# Altium integrated library Linear Technology Operational Amplifiers (LT2000-LT6000).IntLib: 1710 symbols (part 16 of 75)
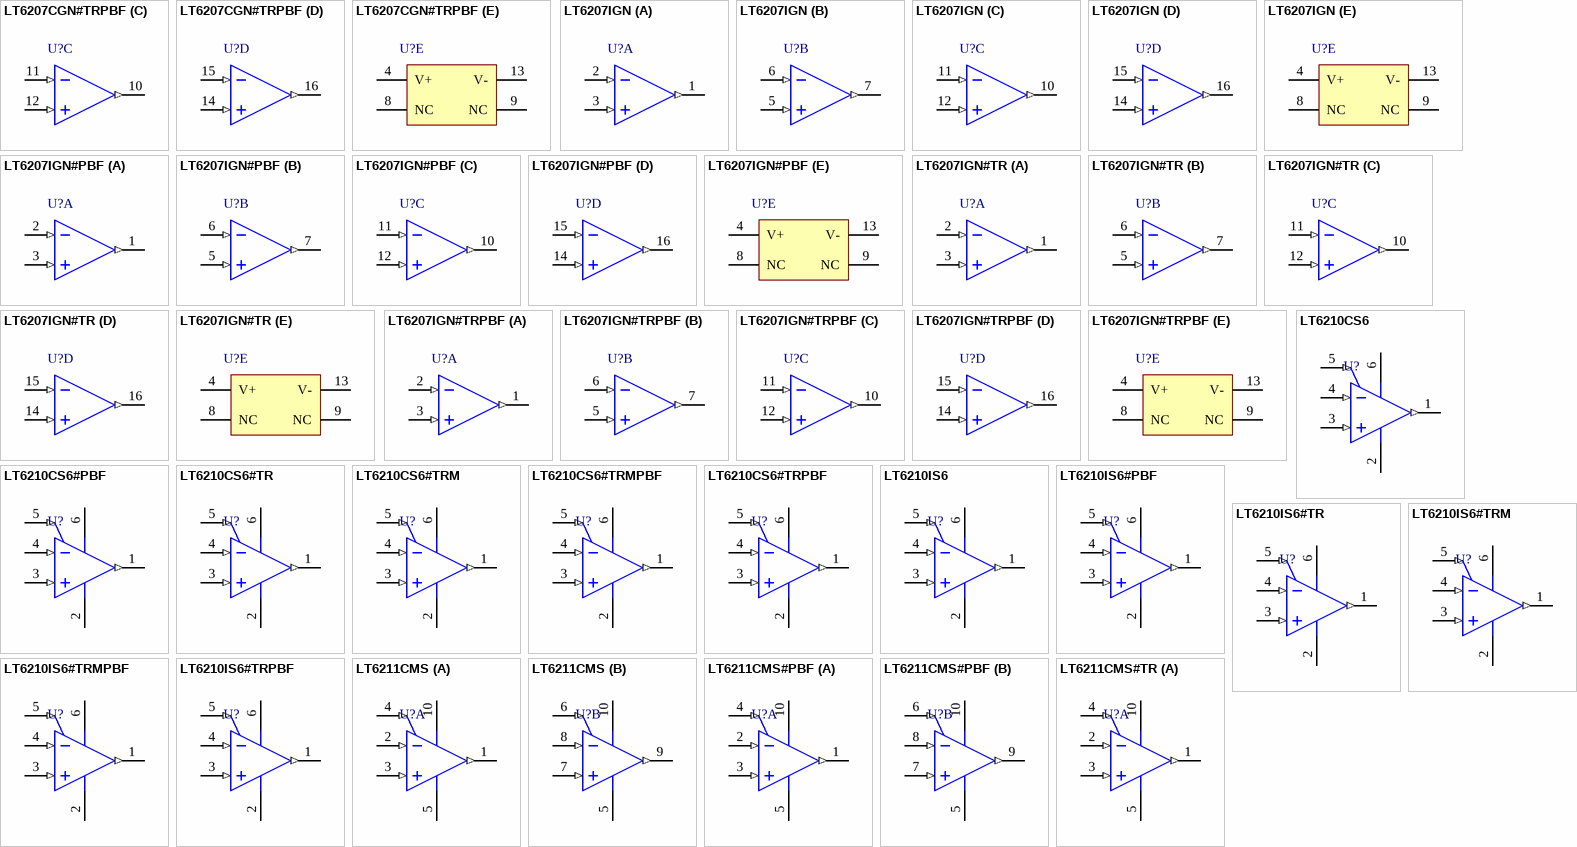
[diagram p95: symbols LT6207CGN#TRPBF to LT6211CMS#TR]

## LT6210IS6#TRPBF
designator U?
Single Channel, Adjustable Speed and Power Current Feedback Amplifier, 200 MHz Typical GBW, 700 V/us Typical SR, 3 to 13.2 V, 6-Pin SOT23 (S6-6), Industrial, Pb-Free, Reel; Linear Technology Part Number: LT6210; Manufacturer: Linear Technology; PartNumber: LT6210IS6#TRPBF; Channels (#): 1; GBW (MHz) Typical: 200; Is (mA) Typical: 5.8; SR (V/us) Typical: 700; Vos (mV) Guaranteed: 6; Vs Max (V): 13.2; Vs Min (V): 3; DatasheetVersion: Rev. C; PackageReference: LT-S6-6-TSOT-23; PackageDescription: 6-Pin Plastic TSOT-23, Body 2.9 x 1.63 mm, Pitch 0.95 mm; Supplier 1: Digi-Key; Supplier Part Number 1: LT6210IS6#TRPBF-ND; Packing: Reel; RoHS: Pb-Free; Type: CFA; Vos (mV) Typical: 1; Mounting Technology: Surface Mount; Code_JEDEC: MO-193; ComponentLink1Description: Manufacturer URL; ComponentLink1URL: http://www.linear.com/; ComponentLink2Description: Datasheet; ComponentLink2URL: http://cds.linear.com/docs/en/datasheet/62101fc.pdf; ComponentLink3Description: Package Specification; ComponentLink3URL: http://cds.linear.com/docs/en/packaging/SOT_6_05-08-1636.pdf
footprint LT-S6-6-TSOT-23_N (SOT23, 6-Leads, Body 2.90x1.63mm, Pitch 0.95mm, IPC Medium Density)
footprint LT-S6-6-TSOT-23_L (SOT23, 6-Leads, Body 2.90x1.63mm, Pitch 0.95mm, IPC High Density)
footprint LT-S6-6-TSOT-23_M (SOT23, 6-Leads, Body 2.90x1.63mm, Pitch 0.95mm, IPC Low Density)
pins: 1 OUT (out), 2 V- (power), 3 +IN (in), 4 -IN (in), 5 ISET (in), 6 V+ (power)

## LT6211CMS
designator U?
Dual Channel, Adjustable Speed and Power Current Feedback Amplifier, 200 MHz Typical GBW, 700 V/us Typical SR, 3 to 13.2 V, 10-Pin SOP (MS-10), Commercial; Linear Technology Part Number: LT6211; Manufacturer: Linear Technology; PartNumber: LT6211CMS; Channels (#): 2; GBW (MHz) Typical: 200; Is (mA) Typical: 5.8; SR (V/us) Typical: 700; Vos (mV) Guaranteed: 6; Vos (mV) Typical: 1; Vs Max (V): 13.2; Vs Min (V): 3; DatasheetVersion: Rev. C; PackageVersion: Rev E; PackageReference: LT-MS-10; PackageDescription: 10-Lead Plastic MSOP, Body 3 x 3 mm, Pitch 0.5 mm; Supplier 1: Digi-Key; Supplier Part Number 1: LT6211CMS-ND; Type: CFA; Mounting Technology: Surface Mount; ComponentLink1Description: Manufacturer URL; ComponentLink1URL: http://www.linear.com/; ComponentLink2Description: Datasheet; ComponentLink2URL: http://cds.linear.com/docs/en/datasheet/62101fc.pdf; ComponentLink3Description: Package Specification; ComponentLink3URL: http://cds.linear.com/docs/en/packaging/MSOP_10_05-08-1661.pdf
footprint LT-MS-10_N (SOP, 10-Leads, Body 3x3mm, Pitch 0.50mm, IPC Medium Density)
footprint LT-MS-10_L (SOP, 10-Leads, Body 3x3mm, Pitch 0.50mm, IPC High Density)
footprint LT-MS-10_M (SOP, 10-Leads, Body 3x3mm, Pitch 0.50mm, IPC Low Density)
pins on every part: 5 V- (power), 10 V+ (power)
part A pins: 1 OUT A (out), 2 -IN A (in), 3 +IN A (in), 4 ISET A (in)
part B pins: 6 ISET B (in), 7 +IN B (in), 8 -IN B (in), 9 OUT B (out)

## LT6211CMS#PBF
designator U?
Dual Channel, Adjustable Speed and Power Current Feedback Amplifier, 200 MHz Typical GBW, 700 V/us Typical SR, 3 to 13.2 V, 10-Pin SOP (MS-10), Commercial, Pb-Free; Linear Technology Part Number: LT6211; Manufacturer: Linear Technology; PartNumber: LT6211CMS#PBF; Channels (#): 2; GBW (MHz) Typical: 200; Is (mA) Typical: 5.8; SR (V/us) Typical: 700; Vos (mV) Guaranteed: 6; Vos (mV) Typical: 1; Vs Max (V): 13.2; Vs Min (V): 3; DatasheetVersion: Rev. C; PackageVersion: Rev E; PackageReference: LT-MS-10; PackageDescription: 10-Lead Plastic MSOP, Body 3 x 3 mm, Pitch 0.5 mm; Supplier 1: Digi-Key; Supplier Part Number 1: LT6211CMS#PBF-ND; Supplier 2: Farnell; Supplier Part Number 2: 1330760; Supplier 3: Newark; Supplier Part Number 3: 57M9293; RoHS: Pb-Free; Type: CFA; Mounting Technology: Surface Mount; ComponentLink1Description: Manufacturer URL; ComponentLink1URL: http://www.linear.com/; ComponentLink2Description: Datasheet; ComponentLink2URL: http://cds.linear.com/docs/en/datasheet/62101fc.pdf; ComponentLink3Description: Package Specification; ComponentLink3URL: http://cds.linear.com/docs/en/packaging/MSOP_10_05-08-1661.pdf
footprint LT-MS-10_N (SOP, 10-Leads, Body 3x3mm, Pitch 0.50mm, IPC Medium Density)
footprint LT-MS-10_L (SOP, 10-Leads, Body 3x3mm, Pitch 0.50mm, IPC High Density)
footprint LT-MS-10_M (SOP, 10-Leads, Body 3x3mm, Pitch 0.50mm, IPC Low Density)
pins on every part: 5 V- (power), 10 V+ (power)
part A pins: 1 OUT A (out), 2 -IN A (in), 3 +IN A (in), 4 ISET A (in)
part B pins: 6 ISET B (in), 7 +IN B (in), 8 -IN B (in), 9 OUT B (out)

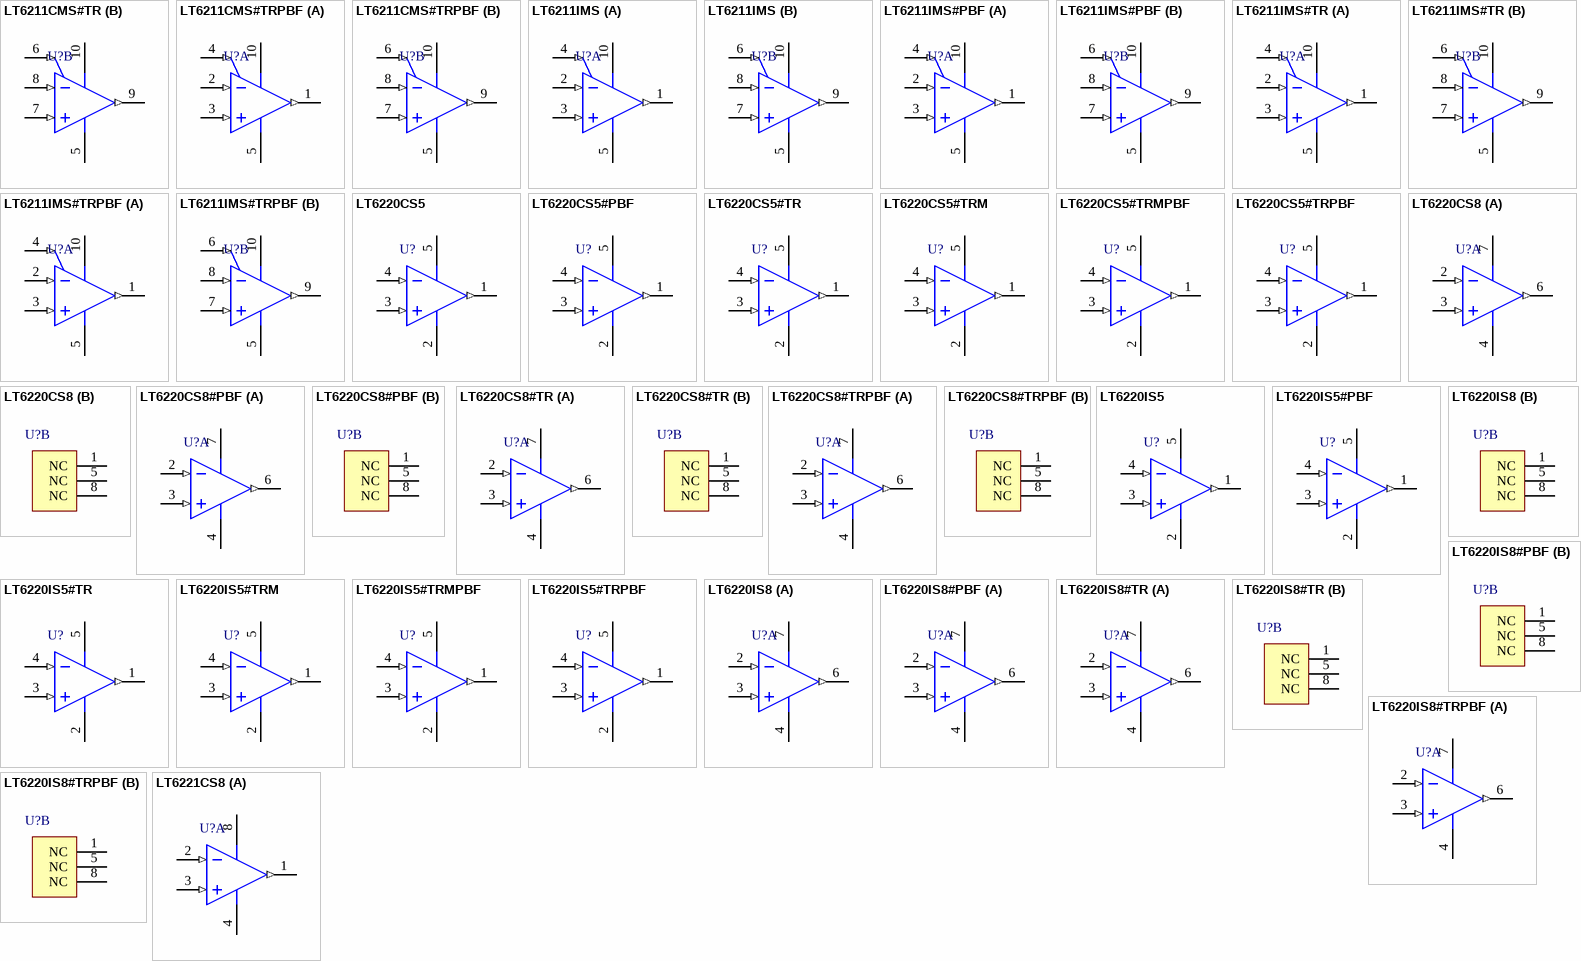
[diagram p24: symbols LT6211CMS#TR to LT6221CS8]

## LT6211CMS#TR
designator U?
Dual Channel, Adjustable Speed and Power Current Feedback Amplifier, 200 MHz Typical GBW, 700 V/us Typical SR, 3 to 13.2 V, 10-Pin SOP (MS-10), Commercial, Reel; Linear Technology Part Number: LT6211; Manufacturer: Linear Technology; PartNumber: LT6211CMS#TR; Channels (#): 2; GBW (MHz) Typical: 200; Is (mA) Typical: 5.8; SR (V/us) Typical: 700; Vos (mV) Guaranteed: 6; Vos (mV) Typical: 1; Vs Max (V): 13.2; Vs Min (V): 3; DatasheetVersion: Rev. C; PackageVersion: Rev E; PackageReference: LT-MS-10; PackageDescription: 10-Lead Plastic MSOP, Body 3 x 3 mm, Pitch 0.5 mm; Supplier 1: Digi-Key; Supplier Part Number 1: LT6211CMS#TR-ND; Packing: Reel; Type: CFA; Mounting Technology: Surface Mount; ComponentLink1Description: Manufacturer URL; ComponentLink1URL: http://www.linear.com/; ComponentLink2Description: Datasheet; ComponentLink2URL: http://cds.linear.com/docs/en/datasheet/62101fc.pdf; ComponentLink3Description: Package Specification; ComponentLink3URL: http://cds.linear.com/docs/en/packaging/MSOP_10_05-08-1661.pdf
footprint LT-MS-10_N (SOP, 10-Leads, Body 3x3mm, Pitch 0.50mm, IPC Medium Density)
footprint LT-MS-10_L (SOP, 10-Leads, Body 3x3mm, Pitch 0.50mm, IPC High Density)
footprint LT-MS-10_M (SOP, 10-Leads, Body 3x3mm, Pitch 0.50mm, IPC Low Density)
pins on every part: 5 V- (power), 10 V+ (power)
part A pins: 1 OUT A (out), 2 -IN A (in), 3 +IN A (in), 4 ISET A (in)
part B pins: 6 ISET B (in), 7 +IN B (in), 8 -IN B (in), 9 OUT B (out)

## LT6211CMS#TRPBF
designator U?
Dual Channel, Adjustable Speed and Power Current Feedback Amplifier, 200 MHz Typical GBW, 700 V/us Typical SR, 3 to 13.2 V, 10-Pin SOP (MS-10), Commercial, Pb-Free, Reel; Linear Technology Part Number: LT6211; Manufacturer: Linear Technology; PartNumber: LT6211CMS#TRPBF; Channels (#): 2; GBW (MHz) Typical: 200; Is (mA) Typical: 5.8; SR (V/us) Typical: 700; Vos (mV) Guaranteed: 6; Vos (mV) Typical: 1; Vs Max (V): 13.2; Vs Min (V): 3; DatasheetVersion: Rev. C; PackageVersion: Rev E; PackageReference: LT-MS-10; PackageDescription: 10-Lead Plastic MSOP, Body 3 x 3 mm, Pitch 0.5 mm; Supplier 1: Digi-Key; Supplier Part Number 1: LT6211CMS#TRPBF-ND; Packing: Reel; RoHS: Pb-Free; Type: CFA; Mounting Technology: Surface Mount; ComponentLink1Description: Manufacturer URL; ComponentLink1URL: http://www.linear.com/; ComponentLink2Description: Datasheet; ComponentLink2URL: http://cds.linear.com/docs/en/datasheet/62101fc.pdf; ComponentLink3Description: Package Specification; ComponentLink3URL: http://cds.linear.com/docs/en/packaging/MSOP_10_05-08-1661.pdf
footprint LT-MS-10_N (SOP, 10-Leads, Body 3x3mm, Pitch 0.50mm, IPC Medium Density)
footprint LT-MS-10_L (SOP, 10-Leads, Body 3x3mm, Pitch 0.50mm, IPC High Density)
footprint LT-MS-10_M (SOP, 10-Leads, Body 3x3mm, Pitch 0.50mm, IPC Low Density)
pins on every part: 5 V- (power), 10 V+ (power)
part A pins: 1 OUT A (out), 2 -IN A (in), 3 +IN A (in), 4 ISET A (in)
part B pins: 6 ISET B (in), 7 +IN B (in), 8 -IN B (in), 9 OUT B (out)

## LT6211IMS
designator U?
Dual Channel, Adjustable Speed and Power Current Feedback Amplifier, 200 MHz Typical GBW, 700 V/us Typical SR, 3 to 13.2 V, 10-Pin SOP (MS-10), Industrial; Linear Technology Part Number: LT6211; Manufacturer: Linear Technology; PartNumber: LT6211IMS; Channels (#): 2; GBW (MHz) Typical: 200; Is (mA) Typical: 5.8; SR (V/us) Typical: 700; Vos (mV) Guaranteed: 6; Vos (mV) Typical: 1; Vs Max (V): 13.2; Vs Min (V): 3; DatasheetVersion: Rev. C; PackageVersion: Rev E; PackageReference: LT-MS-10; PackageDescription: 10-Lead Plastic MSOP, Body 3 x 3 mm, Pitch 0.5 mm; Supplier 1: Digi-Key; Supplier Part Number 1: LT6211IMS-ND; Type: CFA; Mounting Technology: Surface Mount; ComponentLink1Description: Manufacturer URL; ComponentLink1URL: http://www.linear.com/; ComponentLink2Description: Datasheet; ComponentLink2URL: http://cds.linear.com/docs/en/datasheet/62101fc.pdf; ComponentLink3Description: Package Specification; ComponentLink3URL: http://cds.linear.com/docs/en/packaging/MSOP_10_05-08-1661.pdf
footprint LT-MS-10_N (SOP, 10-Leads, Body 3x3mm, Pitch 0.50mm, IPC Medium Density)
footprint LT-MS-10_L (SOP, 10-Leads, Body 3x3mm, Pitch 0.50mm, IPC High Density)
footprint LT-MS-10_M (SOP, 10-Leads, Body 3x3mm, Pitch 0.50mm, IPC Low Density)
pins on every part: 5 V- (power), 10 V+ (power)
part A pins: 1 OUT A (out), 2 -IN A (in), 3 +IN A (in), 4 ISET A (in)
part B pins: 6 ISET B (in), 7 +IN B (in), 8 -IN B (in), 9 OUT B (out)

## LT6211IMS#PBF
designator U?
Dual Channel, Adjustable Speed and Power Current Feedback Amplifier, 200 MHz Typical GBW, 700 V/us Typical SR, 3 to 13.2 V, 10-Pin SOP (MS-10), Industrial, Pb-Free; Linear Technology Part Number: LT6211; Manufacturer: Linear Technology; PartNumber: LT6211IMS#PBF; Channels (#): 2; GBW (MHz) Typical: 200; Is (mA) Typical: 5.8; SR (V/us) Typical: 700; Vos (mV) Guaranteed: 6; Vos (mV) Typical: 1; Vs Max (V): 13.2; Vs Min (V): 3; DatasheetVersion: Rev. C; PackageVersion: Rev E; PackageReference: LT-MS-10; PackageDescription: 10-Lead Plastic MSOP, Body 3 x 3 mm, Pitch 0.5 mm; Supplier 1: Digi-Key; Supplier Part Number 1: LT6211IMS#PBF-ND; RoHS: Pb-Free; Type: CFA; Mounting Technology: Surface Mount; ComponentLink1Description: Manufacturer URL; ComponentLink1URL: http://www.linear.com/; ComponentLink2Description: Datasheet; ComponentLink2URL: http://cds.linear.com/docs/en/datasheet/62101fc.pdf; ComponentLink3Description: Package Specification; ComponentLink3URL: http://cds.linear.com/docs/en/packaging/MSOP_10_05-08-1661.pdf
footprint LT-MS-10_N (SOP, 10-Leads, Body 3x3mm, Pitch 0.50mm, IPC Medium Density)
footprint LT-MS-10_L (SOP, 10-Leads, Body 3x3mm, Pitch 0.50mm, IPC High Density)
footprint LT-MS-10_M (SOP, 10-Leads, Body 3x3mm, Pitch 0.50mm, IPC Low Density)
pins on every part: 5 V- (power), 10 V+ (power)
part A pins: 1 OUT A (out), 2 -IN A (in), 3 +IN A (in), 4 ISET A (in)
part B pins: 6 ISET B (in), 7 +IN B (in), 8 -IN B (in), 9 OUT B (out)

## LT6211IMS#TR
designator U?
Dual Channel, Adjustable Speed and Power Current Feedback Amplifier, 200 MHz Typical GBW, 700 V/us Typical SR, 3 to 13.2 V, 10-Pin SOP (MS-10), Industrial, Reel; Linear Technology Part Number: LT6211; Manufacturer: Linear Technology; PartNumber: LT6211IMS#TR; Channels (#): 2; GBW (MHz) Typical: 200; Is (mA) Typical: 5.8; SR (V/us) Typical: 700; Vos (mV) Guaranteed: 6; Vos (mV) Typical: 1; Vs Max (V): 13.2; Vs Min (V): 3; DatasheetVersion: Rev. C; PackageVersion: Rev E; PackageReference: LT-MS-10; PackageDescription: 10-Lead Plastic MSOP, Body 3 x 3 mm, Pitch 0.5 mm; Supplier 1: Digi-Key; Supplier Part Number 1: LT6211IMS#TR-ND; Packing: Reel; Type: CFA; Mounting Technology: Surface Mount; ComponentLink1Description: Manufacturer URL; ComponentLink1URL: http://www.linear.com/; ComponentLink2Description: Datasheet; ComponentLink2URL: http://cds.linear.com/docs/en/datasheet/62101fc.pdf; ComponentLink3Description: Package Specification; ComponentLink3URL: http://cds.linear.com/docs/en/packaging/MSOP_10_05-08-1661.pdf
footprint LT-MS-10_N (SOP, 10-Leads, Body 3x3mm, Pitch 0.50mm, IPC Medium Density)
footprint LT-MS-10_L (SOP, 10-Leads, Body 3x3mm, Pitch 0.50mm, IPC High Density)
footprint LT-MS-10_M (SOP, 10-Leads, Body 3x3mm, Pitch 0.50mm, IPC Low Density)
pins on every part: 5 V- (power), 10 V+ (power)
part A pins: 1 OUT A (out), 2 -IN A (in), 3 +IN A (in), 4 ISET A (in)
part B pins: 6 ISET B (in), 7 +IN B (in), 8 -IN B (in), 9 OUT B (out)

## LT6211IMS#TRPBF
designator U?
Dual Channel, Adjustable Speed and Power Current Feedback Amplifier, 200 MHz Typical GBW, 700 V/us Typical SR, 3 to 13.2 V, 10-Pin SOP (MS-10), Industrial, Pb-Free, Reel; Linear Technology Part Number: LT6211; Manufacturer: Linear Technology; PartNumber: LT6211IMS#TRPBF; Channels (#): 2; GBW (MHz) Typical: 200; Is (mA) Typical: 5.8; SR (V/us) Typical: 700; Vos (mV) Guaranteed: 6; Vos (mV) Typical: 1; Vs Max (V): 13.2; Vs Min (V): 3; DatasheetVersion: Rev. C; PackageVersion: Rev E; PackageReference: LT-MS-10; PackageDescription: 10-Lead Plastic MSOP, Body 3 x 3 mm, Pitch 0.5 mm; Supplier 1: Digi-Key; Supplier Part Number 1: LT6211IMS#TRPBF-ND; Packing: Reel; RoHS: Pb-Free; Type: CFA; Mounting Technology: Surface Mount; ComponentLink1Description: Manufacturer URL; ComponentLink1URL: http://www.linear.com/; ComponentLink2Description: Datasheet; ComponentLink2URL: http://cds.linear.com/docs/en/datasheet/62101fc.pdf; ComponentLink3Description: Package Specification; ComponentLink3URL: http://cds.linear.com/docs/en/packaging/MSOP_10_05-08-1661.pdf
footprint LT-MS-10_N (SOP, 10-Leads, Body 3x3mm, Pitch 0.50mm, IPC Medium Density)
footprint LT-MS-10_L (SOP, 10-Leads, Body 3x3mm, Pitch 0.50mm, IPC High Density)
footprint LT-MS-10_M (SOP, 10-Leads, Body 3x3mm, Pitch 0.50mm, IPC Low Density)
pins on every part: 5 V- (power), 10 V+ (power)
part A pins: 1 OUT A (out), 2 -IN A (in), 3 +IN A (in), 4 ISET A (in)
part B pins: 6 ISET B (in), 7 +IN B (in), 8 -IN B (in), 9 OUT B (out)

## LT6220CS5
designator U?
Single Channel, Low Power Precision Operational Amplifier, RRIO, 60 MHz Typical GBW, 20 V/us Typical SR, 2.2 to 12.6 V, 5-Pin SOT23 (S5-5), Commercial; Linear Technology Part Number: LT6220; Manufacturer: Linear Technology; PartNumber: LT6220CS5; Channels (#): 1; GBW (MHz) Typical: 60; Is (mA) Typical: 0.9; SR (V/us) Typical: 20; Vos (mV) Guaranteed: 0.35; Vos (mV) Typical: 0.07; Vs Max (V): 12.6; Vs Min (V): 2.2; PackageReference: LT-S5-5-TSOT-23; PackageDescription: 5-Lead Plastic TSOT-23, Body 1.63 x 2.90 mm, Pitch 0.95 mm; Type: VFB; Mounting Technology: Surface Mount; Code_JEDEC: MO-193; ComponentLink1Description: Manufacturer URL; ComponentLink1URL: http://www.linear.com/; ComponentLink2Description: Datasheet; ComponentLink2URL: http://cds.linear.com/docs/en/datasheet/622012fa.pdf; ComponentLink3Description: Package Specification; ComponentLink3URL: http://cds.linear.com/docs/en/packaging/SOT_5_05-08-1635.pdf
footprint LT-S5-5-TSOT-23_N (SOT23, 5-Leads, Body 2.90x1.63mm, Pitch 0.95mm, IPC Medium Density)
footprint LT-S5-5-TSOT-23_L (SOT23, 5-Leads, Body 2.90x1.63mm, Pitch 0.95mm, IPC High Density)
footprint LT-S5-5-TSOT-23_M (SOT23, 5-Leads, Body 2.90x1.63mm, Pitch 0.95mm, IPC Low Density)
pins: 1 VOUT (out), 2 VS- (power), 3 +IN (in), 4 -IN (in), 5 VS+ (power)

## LT6220CS5#PBF
designator U?
Single Channel, Low Power Precision Operational Amplifier, RRIO, 60 MHz Typical GBW, 20 V/us Typical SR, 2.2 to 12.6 V, 5-Pin SOT23 (S5-5), Commercial, Pb-Free; Linear Technology Part Number: LT6220; Manufacturer: Linear Technology; PartNumber: LT6220CS5#PBF; Channels (#): 1; GBW (MHz) Typical: 60; Is (mA) Typical: 0.9; SR (V/us) Typical: 20; Vos (mV) Guaranteed: 0.35; Vos (mV) Typical: 0.07; Vs Max (V): 12.6; Vs Min (V): 2.2; PackageReference: LT-S5-5-TSOT-23; PackageDescription: 5-Lead Plastic TSOT-23, Body 1.63 x 2.90 mm, Pitch 0.95 mm; Supplier 1: Farnell; Supplier Part Number 1: 2308222; Supplier 2: Newark; Supplier Part Number 2: 78T4176; RoHS: Pb-Free; Type: VFB; Mounting Technology: Surface Mount; Code_JEDEC: MO-193; ComponentLink1Description: Manufacturer URL; ComponentLink1URL: http://www.linear.com/; ComponentLink2Description: Datasheet; ComponentLink2URL: http://cds.linear.com/docs/en/datasheet/622012fa.pdf; ComponentLink3Description: Package Specification; ComponentLink3URL: http://cds.linear.com/docs/en/packaging/SOT_5_05-08-1635.pdf
footprint LT-S5-5-TSOT-23_N (SOT23, 5-Leads, Body 2.90x1.63mm, Pitch 0.95mm, IPC Medium Density)
footprint LT-S5-5-TSOT-23_L (SOT23, 5-Leads, Body 2.90x1.63mm, Pitch 0.95mm, IPC High Density)
footprint LT-S5-5-TSOT-23_M (SOT23, 5-Leads, Body 2.90x1.63mm, Pitch 0.95mm, IPC Low Density)
pins: 1 VOUT (out), 2 VS- (power), 3 +IN (in), 4 -IN (in), 5 VS+ (power)

## LT6220CS5#TR
designator U?
Single Channel, Low Power Precision Operational Amplifier, RRIO, 60 MHz Typical GBW, 20 V/us Typical SR, 2.2 to 12.6 V, 5-Pin SOT23 (S5-5), Commercial, Reel; Linear Technology Part Number: LT6220; Manufacturer: Linear Technology; PartNumber: LT6220CS5#TR; Channels (#): 1; GBW (MHz) Typical: 60; Is (mA) Typical: 0.9; SR (V/us) Typical: 20; Vos (mV) Guaranteed: 0.35; Vos (mV) Typical: 0.07; Vs Max (V): 12.6; Vs Min (V): 2.2; PackageReference: LT-S5-5-TSOT-23; PackageDescription: 5-Lead Plastic TSOT-23, Body 1.63 x 2.90 mm, Pitch 0.95 mm; Supplier 1: Digi-Key; Supplier Part Number 1: LT6220CS5#TR-ND; Supplier 2: Newark; Supplier Part Number 2: 57M9304; Packing: Reel; Type: VFB; Mounting Technology: Surface Mount; Code_JEDEC: MO-193; ComponentLink1Description: Manufacturer URL; ComponentLink1URL: http://www.linear.com/; ComponentLink2Description: Datasheet; ComponentLink2URL: http://cds.linear.com/docs/en/datasheet/622012fa.pdf; ComponentLink3Description: Package Specification; ComponentLink3URL: http://cds.linear.com/docs/en/packaging/SOT_5_05-08-1635.pdf
footprint LT-S5-5-TSOT-23_N (SOT23, 5-Leads, Body 2.90x1.63mm, Pitch 0.95mm, IPC Medium Density)
footprint LT-S5-5-TSOT-23_L (SOT23, 5-Leads, Body 2.90x1.63mm, Pitch 0.95mm, IPC High Density)
footprint LT-S5-5-TSOT-23_M (SOT23, 5-Leads, Body 2.90x1.63mm, Pitch 0.95mm, IPC Low Density)
pins: 1 VOUT (out), 2 VS- (power), 3 +IN (in), 4 -IN (in), 5 VS+ (power)

## LT6220CS5#TRM
designator U?
Single Channel, Low Power Precision Operational Amplifier, RRIO, 60 MHz Typical GBW, 20 V/us Typical SR, 2.2 to 12.6 V, 5-Pin SOT23 (S5-5), Commercial, Mini Reel; Linear Technology Part Number: LT6220; Manufacturer: Linear Technology; PartNumber: LT6220CS5#TRM; Channels (#): 1; GBW (MHz) Typical: 60; Is (mA) Typical: 0.9; SR (V/us) Typical: 20; Vos (mV) Guaranteed: 0.35; Vos (mV) Typical: 0.07; Vs Max (V): 12.6; Vs Min (V): 2.2; PackageReference: LT-S5-5-TSOT-23; PackageDescription: 5-Lead Plastic TSOT-23, Body 1.63 x 2.90 mm, Pitch 0.95 mm; Supplier 1: Digi-Key; Supplier Part Number 1: LT6220CS5#TRMTR-ND; Supplier 2: Digi-Key; Supplier Part Number 2: LT6220CS5#TRMCT-ND; Packing: Mini Reel; Type: VFB; Mounting Technology: Surface Mount; Code_JEDEC: MO-193; ComponentLink1Description: Manufacturer URL; ComponentLink1URL: http://www.linear.com/; ComponentLink2Description: Datasheet; ComponentLink2URL: http://cds.linear.com/docs/en/datasheet/622012fa.pdf; ComponentLink3Description: Package Specification; ComponentLink3URL: http://cds.linear.com/docs/en/packaging/SOT_5_05-08-1635.pdf
footprint LT-S5-5-TSOT-23_N (SOT23, 5-Leads, Body 2.90x1.63mm, Pitch 0.95mm, IPC Medium Density)
footprint LT-S5-5-TSOT-23_L (SOT23, 5-Leads, Body 2.90x1.63mm, Pitch 0.95mm, IPC High Density)
footprint LT-S5-5-TSOT-23_M (SOT23, 5-Leads, Body 2.90x1.63mm, Pitch 0.95mm, IPC Low Density)
pins: 1 VOUT (out), 2 VS- (power), 3 +IN (in), 4 -IN (in), 5 VS+ (power)

## LT6220CS5#TRMPBF
designator U?
Single Channel, Low Power Precision Operational Amplifier, RRIO, 60 MHz Typical GBW, 20 V/us Typical SR, 2.2 to 12.6 V, 5-Pin SOT23 (S5-5), Commercial, Pb-Free, Mini Reel; Linear Technology Part Number: LT6220; Manufacturer: Linear Technology; PartNumber: LT6220CS5#TRMPBF; Channels (#): 1; GBW (MHz) Typical: 60; Is (mA) Typical: 0.9; SR (V/us) Typical: 20; Vos (mV) Guaranteed: 0.35; Vos (mV) Typical: 0.07; Vs Max (V): 12.6; Vs Min (V): 2.2; PackageReference: LT-S5-5-TSOT-23; PackageDescription: 5-Lead Plastic TSOT-23, Body 1.63 x 2.90 mm, Pitch 0.95 mm; Supplier 1: Digi-Key; Supplier Part Number 1: LT6220CS5#TRMPBFTR-ND; Supplier 2: Digi-Key; Supplier Part Number 2: LT6220CS5#TRMPBFCT-ND; Supplier 3: Digi-Key; Supplier Part Number 3: LT6220CS5#TRMPBFDKR-ND; Supplier 4: Farnell; Supplier Part Number 4: 1663844; Supplier 5: Farnell; Supplier Part Number 5: 1663844RL; Supplier 6: Newark; Supplier Part Number 6: 57M9306; Packing: Mini Reel; RoHS: Pb-Free; Type: VFB; Mounting Technology: Surface Mount; Code_JEDEC: MO-193; ComponentLink1Description: Manufacturer URL; ComponentLink1URL: http://www.linear.com/; ComponentLink2Description: Datasheet; ComponentLink2URL: http://cds.linear.com/docs/en/datasheet/622012fa.pdf; ComponentLink3Description: Package Specification; ComponentLink3URL: http://cds.linear.com/docs/en/packaging/SOT_5_05-08-1635.pdf
footprint LT-S5-5-TSOT-23_N (SOT23, 5-Leads, Body 2.90x1.63mm, Pitch 0.95mm, IPC Medium Density)
footprint LT-S5-5-TSOT-23_L (SOT23, 5-Leads, Body 2.90x1.63mm, Pitch 0.95mm, IPC High Density)
footprint LT-S5-5-TSOT-23_M (SOT23, 5-Leads, Body 2.90x1.63mm, Pitch 0.95mm, IPC Low Density)
pins: 1 VOUT (out), 2 VS- (power), 3 +IN (in), 4 -IN (in), 5 VS+ (power)

## LT6220CS5#TRPBF
designator U?
Single Channel, Low Power Precision Operational Amplifier, RRIO, 60 MHz Typical GBW, 20 V/us Typical SR, 2.2 to 12.6 V, 5-Pin SOT23 (S5-5), Commercial, Pb-Free, Reel; Linear Technology Part Number: LT6220; Manufacturer: Linear Technology; PartNumber: LT6220CS5#TRPBF; Channels (#): 1; GBW (MHz) Typical: 60; Is (mA) Typical: 0.9; SR (V/us) Typical: 20; Vos (mV) Guaranteed: 0.35; Vos (mV) Typical: 0.07; Vs Max (V): 12.6; Vs Min (V): 2.2; PackageReference: LT-S5-5-TSOT-23; PackageDescription: 5-Lead Plastic TSOT-23, Body 1.63 x 2.90 mm, Pitch 0.95 mm; Supplier 1: Digi-Key; Supplier Part Number 1: LT6220CS5#TRPBF-ND; Supplier 2: Newark; Supplier Part Number 2: 57M9307; Packing: Reel; RoHS: Pb-Free; Type: VFB; Mounting Technology: Surface Mount; Code_JEDEC: MO-193; ComponentLink1Description: Manufacturer URL; ComponentLink1URL: http://www.linear.com/; ComponentLink2Description: Datasheet; ComponentLink2URL: http://cds.linear.com/docs/en/datasheet/622012fa.pdf; ComponentLink3Description: Package Specification; ComponentLink3URL: http://cds.linear.com/docs/en/packaging/SOT_5_05-08-1635.pdf
footprint LT-S5-5-TSOT-23_N (SOT23, 5-Leads, Body 2.90x1.63mm, Pitch 0.95mm, IPC Medium Density)
footprint LT-S5-5-TSOT-23_L (SOT23, 5-Leads, Body 2.90x1.63mm, Pitch 0.95mm, IPC High Density)
footprint LT-S5-5-TSOT-23_M (SOT23, 5-Leads, Body 2.90x1.63mm, Pitch 0.95mm, IPC Low Density)
pins: 1 VOUT (out), 2 VS- (power), 3 +IN (in), 4 -IN (in), 5 VS+ (power)

## LT6220CS8
designator U?
Single Channel, Low Power Precision Operational Amplifier, RRIO, 60 MHz Typical GBW, 20 V/us Typical SR, 2.2 to 12.6 V, 8-Pin SOIC (S8-8), Commercial; Linear Technology Part Number: LT6220; Manufacturer: Linear Technology; PartNumber: LT6220CS8; Channels (#): 1; GBW (MHz) Typical: 60; Is (mA) Typical: 0.9; SR (V/us) Typical: 20; Vos (mV) Guaranteed: 0.35; Vos (mV) Typical: 0.07; Vs Max (V): 12.6; Vs Min (V): 2.2; PackageVersion: Rev G; PackageReference: LT-S8-8; PackageDescription: 8-Pin Plastic Small Outline, Body 4.9 x 3.9 mm, Pitch 1.27 mm; Supplier 1: Digi-Key; Supplier Part Number 1: LT6220CS8-ND; Type: VFB; Mounting Technology: Surface Mount; ComponentLink1Description: Manufacturer URL; ComponentLink1URL: http://www.linear.com/; ComponentLink2Description: Datasheet; ComponentLink2URL: http://cds.linear.com/docs/en/datasheet/622012fa.pdf; ComponentLink3Description: Package Specification; ComponentLink3URL: http://cds.linear.com/docs/en/packaging/05081610_G_SO8.pdf
footprint LT-S8-8_N (SOIC, 8-Leads, Body 4.9x3.9mm, Pitch 1.27mm, IPC Medium Density)
footprint LT-S8-8_L (SOIC, 8-Leads, Body 4.9x3.9mm, Pitch 1.27mm, IPC High Density)
footprint LT-S8-8_M (SOIC, 8-Leads, Body 4.9x3.9mm, Pitch 1.27mm, IPC Low Density)
part A pins: 2 -IN (in), 3 +IN (in), 4 VS- (power), 6 VOUT (out), 7 VS+ (power)
part B pins: 1 NC, 5 NC, 8 NC

## LT6220CS8#PBF
designator U?
Single Channel, Low Power Precision Operational Amplifier, RRIO, 60 MHz Typical GBW, 20 V/us Typical SR, 2.2 to 12.6 V, 8-Pin SOIC (S8-8), Commercial, Pb-Free; Linear Technology Part Number: LT6220; Manufacturer: Linear Technology; PartNumber: LT6220CS8#PBF; Channels (#): 1; GBW (MHz) Typical: 60; Is (mA) Typical: 0.9; SR (V/us) Typical: 20; Vos (mV) Guaranteed: 0.35; Vos (mV) Typical: 0.07; Vs Max (V): 12.6; Vs Min (V): 2.2; PackageVersion: Rev G; PackageReference: LT-S8-8; PackageDescription: 8-Pin Plastic Small Outline, Body 4.9 x 3.9 mm, Pitch 1.27 mm; Supplier 1: Digi-Key; Supplier Part Number 1: LT6220CS8#PBF-ND; Supplier 2: Farnell; Supplier Part Number 2: 1663588; Supplier 3: Newark; Supplier Part Number 3: 57M9309; RoHS: Pb-Free; Type: VFB; Mounting Technology: Surface Mount; ComponentLink1Description: Manufacturer URL; ComponentLink1URL: http://www.linear.com/; ComponentLink2Description: Datasheet; ComponentLink2URL: http://cds.linear.com/docs/en/datasheet/622012fa.pdf; ComponentLink3Description: Package Specification; ComponentLink3URL: http://cds.linear.com/docs/en/packaging/05081610_G_SO8.pdf
footprint LT-S8-8_N (SOIC, 8-Leads, Body 4.9x3.9mm, Pitch 1.27mm, IPC Medium Density)
footprint LT-S8-8_L (SOIC, 8-Leads, Body 4.9x3.9mm, Pitch 1.27mm, IPC High Density)
footprint LT-S8-8_M (SOIC, 8-Leads, Body 4.9x3.9mm, Pitch 1.27mm, IPC Low Density)
part A pins: 2 -IN (in), 3 +IN (in), 4 VS- (power), 6 VOUT (out), 7 VS+ (power)
part B pins: 1 NC, 5 NC, 8 NC

## LT6220CS8#TR
designator U?
Single Channel, Low Power Precision Operational Amplifier, RRIO, 60 MHz Typical GBW, 20 V/us Typical SR, 2.2 to 12.6 V, 8-Pin SOIC (S8-8), Commercial, Reel; Linear Technology Part Number: LT6220; Manufacturer: Linear Technology; PartNumber: LT6220CS8#TR; Channels (#): 1; GBW (MHz) Typical: 60; Is (mA) Typical: 0.9; SR (V/us) Typical: 20; Vos (mV) Guaranteed: 0.35; Vos (mV) Typical: 0.07; Vs Max (V): 12.6; Vs Min (V): 2.2; PackageVersion: Rev G; PackageReference: LT-S8-8; PackageDescription: 8-Pin Plastic Small Outline, Body 4.9 x 3.9 mm, Pitch 1.27 mm; Supplier 1: Digi-Key; Supplier Part Number 1: LT6220CS8#TR-ND; Packing: Reel; Type: VFB; Mounting Technology: Surface Mount; ComponentLink1Description: Manufacturer URL; ComponentLink1URL: http://www.linear.com/; ComponentLink2Description: Datasheet; ComponentLink2URL: http://cds.linear.com/docs/en/datasheet/622012fa.pdf; ComponentLink3Description: Package Specification; ComponentLink3URL: http://cds.linear.com/docs/en/packaging/05081610_G_SO8.pdf
footprint LT-S8-8_N (SOIC, 8-Leads, Body 4.9x3.9mm, Pitch 1.27mm, IPC Medium Density)
footprint LT-S8-8_L (SOIC, 8-Leads, Body 4.9x3.9mm, Pitch 1.27mm, IPC High Density)
footprint LT-S8-8_M (SOIC, 8-Leads, Body 4.9x3.9mm, Pitch 1.27mm, IPC Low Density)
part A pins: 2 -IN (in), 3 +IN (in), 4 VS- (power), 6 VOUT (out), 7 VS+ (power)
part B pins: 1 NC, 5 NC, 8 NC

## LT6220CS8#TRPBF
designator U?
Single Channel, Low Power Precision Operational Amplifier, RRIO, 60 MHz Typical GBW, 20 V/us Typical SR, 2.2 to 12.6 V, 8-Pin SOIC (S8-8), Commercial, Pb-Free, Reel; Linear Technology Part Number: LT6220; Manufacturer: Linear Technology; PartNumber: LT6220CS8#TRPBF; Channels (#): 1; GBW (MHz) Typical: 60; Is (mA) Typical: 0.9; SR (V/us) Typical: 20; Vos (mV) Guaranteed: 0.35; Vos (mV) Typical: 0.07; Vs Max (V): 12.6; Vs Min (V): 2.2; PackageVersion: Rev G; PackageReference: LT-S8-8; PackageDescription: 8-Pin Plastic Small Outline, Body 4.9 x 3.9 mm, Pitch 1.27 mm; Supplier 1: Digi-Key; Supplier Part Number 1: LT6220CS8#TRPBF-ND; Packing: Reel; RoHS: Pb-Free; Type: VFB; Mounting Technology: Surface Mount; ComponentLink1Description: Manufacturer URL; ComponentLink1URL: http://www.linear.com/; ComponentLink2Description: Datasheet; ComponentLink2URL: http://cds.linear.com/docs/en/datasheet/622012fa.pdf; ComponentLink3Description: Package Specification; ComponentLink3URL: http://cds.linear.com/docs/en/packaging/05081610_G_SO8.pdf
footprint LT-S8-8_N (SOIC, 8-Leads, Body 4.9x3.9mm, Pitch 1.27mm, IPC Medium Density)
footprint LT-S8-8_L (SOIC, 8-Leads, Body 4.9x3.9mm, Pitch 1.27mm, IPC High Density)
footprint LT-S8-8_M (SOIC, 8-Leads, Body 4.9x3.9mm, Pitch 1.27mm, IPC Low Density)
part A pins: 2 -IN (in), 3 +IN (in), 4 VS- (power), 6 VOUT (out), 7 VS+ (power)
part B pins: 1 NC, 5 NC, 8 NC

## LT6220IS5
designator U?
Single Channel, Low Power Precision Operational Amplifier, RRIO, 60 MHz Typical GBW, 20 V/us Typical SR, 2.2 to 12.6 V, 5-Pin SOT23 (S5-5), Industrial; Linear Technology Part Number: LT6220; Manufacturer: Linear Technology; PartNumber: LT6220IS5; Channels (#): 1; GBW (MHz) Typical: 60; Is (mA) Typical: 0.9; SR (V/us) Typical: 20; Vos (mV) Guaranteed: 0.35; Vos (mV) Typical: 0.07; Vs Max (V): 12.6; Vs Min (V): 2.2; PackageReference: LT-S5-5-TSOT-23; PackageDescription: 5-Lead Plastic TSOT-23, Body 1.63 x 2.90 mm, Pitch 0.95 mm; Type: VFB; Mounting Technology: Surface Mount; Code_JEDEC: MO-193; ComponentLink1Description: Manufacturer URL; ComponentLink1URL: http://www.linear.com/; ComponentLink2Description: Datasheet; ComponentLink2URL: http://cds.linear.com/docs/en/datasheet/622012fa.pdf; ComponentLink3Description: Package Specification; ComponentLink3URL: http://cds.linear.com/docs/en/packaging/SOT_5_05-08-1635.pdf
footprint LT-S5-5-TSOT-23_N (SOT23, 5-Leads, Body 2.90x1.63mm, Pitch 0.95mm, IPC Medium Density)
footprint LT-S5-5-TSOT-23_L (SOT23, 5-Leads, Body 2.90x1.63mm, Pitch 0.95mm, IPC High Density)
footprint LT-S5-5-TSOT-23_M (SOT23, 5-Leads, Body 2.90x1.63mm, Pitch 0.95mm, IPC Low Density)
pins: 1 VOUT (out), 2 VS- (power), 3 +IN (in), 4 -IN (in), 5 VS+ (power)

## LT6220IS5#PBF
designator U?
Single Channel, Low Power Precision Operational Amplifier, RRIO, 60 MHz Typical GBW, 20 V/us Typical SR, 2.2 to 12.6 V, 5-Pin SOT23 (S5-5), Industrial, Pb-Free; Linear Technology Part Number: LT6220; Manufacturer: Linear Technology; PartNumber: LT6220IS5#PBF; Channels (#): 1; GBW (MHz) Typical: 60; Is (mA) Typical: 0.9; SR (V/us) Typical: 20; Vos (mV) Guaranteed: 0.35; Vos (mV) Typical: 0.07; Vs Max (V): 12.6; Vs Min (V): 2.2; PackageReference: LT-S5-5-TSOT-23; PackageDescription: 5-Lead Plastic TSOT-23, Body 1.63 x 2.90 mm, Pitch 0.95 mm; Supplier 1: Newark; Supplier Part Number 1: 69R4559; RoHS: Pb-Free; Type: VFB; Mounting Technology: Surface Mount; Code_JEDEC: MO-193; ComponentLink1Description: Manufacturer URL; ComponentLink1URL: http://www.linear.com/; ComponentLink2Description: Datasheet; ComponentLink2URL: http://cds.linear.com/docs/en/datasheet/622012fa.pdf; ComponentLink3Description: Package Specification; ComponentLink3URL: http://cds.linear.com/docs/en/packaging/SOT_5_05-08-1635.pdf
footprint LT-S5-5-TSOT-23_N (SOT23, 5-Leads, Body 2.90x1.63mm, Pitch 0.95mm, IPC Medium Density)
footprint LT-S5-5-TSOT-23_L (SOT23, 5-Leads, Body 2.90x1.63mm, Pitch 0.95mm, IPC High Density)
footprint LT-S5-5-TSOT-23_M (SOT23, 5-Leads, Body 2.90x1.63mm, Pitch 0.95mm, IPC Low Density)
pins: 1 VOUT (out), 2 VS- (power), 3 +IN (in), 4 -IN (in), 5 VS+ (power)

## LT6220IS5#TR
designator U?
Single Channel, Low Power Precision Operational Amplifier, RRIO, 60 MHz Typical GBW, 20 V/us Typical SR, 2.2 to 12.6 V, 5-Pin SOT23 (S5-5), Industrial, Reel; Linear Technology Part Number: LT6220; Manufacturer: Linear Technology; PartNumber: LT6220IS5#TR; Channels (#): 1; GBW (MHz) Typical: 60; Is (mA) Typical: 0.9; SR (V/us) Typical: 20; Vos (mV) Guaranteed: 0.35; Vos (mV) Typical: 0.07; Vs Max (V): 12.6; Vs Min (V): 2.2; PackageReference: LT-S5-5-TSOT-23; PackageDescription: 5-Lead Plastic TSOT-23, Body 1.63 x 2.90 mm, Pitch 0.95 mm; Supplier 1: Digi-Key; Supplier Part Number 1: LT6220IS5#TR-ND; Supplier 2: Newark; Supplier Part Number 2: 57M9312; Packing: Reel; Type: VFB; Mounting Technology: Surface Mount; Code_JEDEC: MO-193; ComponentLink1Description: Manufacturer URL; ComponentLink1URL: http://www.linear.com/; ComponentLink2Description: Datasheet; ComponentLink2URL: http://cds.linear.com/docs/en/datasheet/622012fa.pdf; ComponentLink3Description: Package Specification; ComponentLink3URL: http://cds.linear.com/docs/en/packaging/SOT_5_05-08-1635.pdf
footprint LT-S5-5-TSOT-23_N (SOT23, 5-Leads, Body 2.90x1.63mm, Pitch 0.95mm, IPC Medium Density)
footprint LT-S5-5-TSOT-23_L (SOT23, 5-Leads, Body 2.90x1.63mm, Pitch 0.95mm, IPC High Density)
footprint LT-S5-5-TSOT-23_M (SOT23, 5-Leads, Body 2.90x1.63mm, Pitch 0.95mm, IPC Low Density)
pins: 1 VOUT (out), 2 VS- (power), 3 +IN (in), 4 -IN (in), 5 VS+ (power)

## LT6220IS5#TRM
designator U?
Single Channel, Low Power Precision Operational Amplifier, RRIO, 60 MHz Typical GBW, 20 V/us Typical SR, 2.2 to 12.6 V, 5-Pin SOT23 (S5-5), Industrial, Mini Reel; Linear Technology Part Number: LT6220; Manufacturer: Linear Technology; PartNumber: LT6220IS5#TRM; Channels (#): 1; GBW (MHz) Typical: 60; Is (mA) Typical: 0.9; SR (V/us) Typical: 20; Vos (mV) Guaranteed: 0.35; Vos (mV) Typical: 0.07; Vs Max (V): 12.6; Vs Min (V): 2.2; PackageReference: LT-S5-5-TSOT-23; PackageDescription: 5-Lead Plastic TSOT-23, Body 1.63 x 2.90 mm, Pitch 0.95 mm; Supplier 1: Digi-Key; Supplier Part Number 1: LT6220IS5#TRM-ND; Supplier 2: Newark; Supplier Part Number 2: 57M9313; Packing: Mini Reel; Type: VFB; Mounting Technology: Surface Mount; Code_JEDEC: MO-193; ComponentLink1Description: Manufacturer URL; ComponentLink1URL: http://www.linear.com/; ComponentLink2Description: Datasheet; ComponentLink2URL: http://cds.linear.com/docs/en/datasheet/622012fa.pdf; ComponentLink3Description: Package Specification; ComponentLink3URL: http://cds.linear.com/docs/en/packaging/SOT_5_05-08-1635.pdf
footprint LT-S5-5-TSOT-23_N (SOT23, 5-Leads, Body 2.90x1.63mm, Pitch 0.95mm, IPC Medium Density)
footprint LT-S5-5-TSOT-23_L (SOT23, 5-Leads, Body 2.90x1.63mm, Pitch 0.95mm, IPC High Density)
footprint LT-S5-5-TSOT-23_M (SOT23, 5-Leads, Body 2.90x1.63mm, Pitch 0.95mm, IPC Low Density)
pins: 1 VOUT (out), 2 VS- (power), 3 +IN (in), 4 -IN (in), 5 VS+ (power)

## LT6220IS5#TRMPBF
designator U?
Single Channel, Low Power Precision Operational Amplifier, RRIO, 60 MHz Typical GBW, 20 V/us Typical SR, 2.2 to 12.6 V, 5-Pin SOT23 (S5-5), Industrial, Pb-Free, Mini Reel; Linear Technology Part Number: LT6220; Manufacturer: Linear Technology; PartNumber: LT6220IS5#TRMPBF; Channels (#): 1; GBW (MHz) Typical: 60; Is (mA) Typical: 0.9; SR (V/us) Typical: 20; Vos (mV) Guaranteed: 0.35; Vos (mV) Typical: 0.07; Vs Max (V): 12.6; Vs Min (V): 2.2; PackageReference: LT-S5-5-TSOT-23; PackageDescription: 5-Lead Plastic TSOT-23, Body 1.63 x 2.90 mm, Pitch 0.95 mm; Supplier 1: Digi-Key; Supplier Part Number 1: LT6220IS5#TRMPBFTR-ND; Supplier 2: Digi-Key; Supplier Part Number 2: LT6220IS5#TRMPBFCT-ND; Supplier 3: Digi-Key; Supplier Part Number 3: LT6220IS5#TRMPBFDKR-ND; Supplier 4: Newark; Supplier Part Number 4: 57M9314; Packing: Mini Reel; RoHS: Pb-Free; Type: VFB; Mounting Technology: Surface Mount; Code_JEDEC: MO-193; ComponentLink1Description: Manufacturer URL; ComponentLink1URL: http://www.linear.com/; ComponentLink2Description: Datasheet; ComponentLink2URL: http://cds.linear.com/docs/en/datasheet/622012fa.pdf; ComponentLink3Description: Package Specification; ComponentLink3URL: http://cds.linear.com/docs/en/packaging/SOT_5_05-08-1635.pdf
footprint LT-S5-5-TSOT-23_N (SOT23, 5-Leads, Body 2.90x1.63mm, Pitch 0.95mm, IPC Medium Density)
footprint LT-S5-5-TSOT-23_L (SOT23, 5-Leads, Body 2.90x1.63mm, Pitch 0.95mm, IPC High Density)
footprint LT-S5-5-TSOT-23_M (SOT23, 5-Leads, Body 2.90x1.63mm, Pitch 0.95mm, IPC Low Density)
pins: 1 VOUT (out), 2 VS- (power), 3 +IN (in), 4 -IN (in), 5 VS+ (power)

## LT6220IS5#TRPBF
designator U?
Single Channel, Low Power Precision Operational Amplifier, RRIO, 60 MHz Typical GBW, 20 V/us Typical SR, 2.2 to 12.6 V, 5-Pin SOT23 (S5-5), Industrial, Pb-Free, Reel; Linear Technology Part Number: LT6220; Manufacturer: Linear Technology; PartNumber: LT6220IS5#TRPBF; Channels (#): 1; GBW (MHz) Typical: 60; Is (mA) Typical: 0.9; SR (V/us) Typical: 20; Vos (mV) Guaranteed: 0.35; Vos (mV) Typical: 0.07; Vs Max (V): 12.6; Vs Min (V): 2.2; PackageReference: LT-S5-5-TSOT-23; PackageDescription: 5-Lead Plastic TSOT-23, Body 1.63 x 2.90 mm, Pitch 0.95 mm; Supplier 1: Digi-Key; Supplier Part Number 1: LT6220IS5#TRPBF-ND; Supplier 2: Newark; Supplier Part Number 2: 57M9315; Packing: Reel; RoHS: Pb-Free; Type: VFB; Mounting Technology: Surface Mount; Code_JEDEC: MO-193; ComponentLink1Description: Manufacturer URL; ComponentLink1URL: http://www.linear.com/; ComponentLink2Description: Datasheet; ComponentLink2URL: http://cds.linear.com/docs/en/datasheet/622012fa.pdf; ComponentLink3Description: Package Specification; ComponentLink3URL: http://cds.linear.com/docs/en/packaging/SOT_5_05-08-1635.pdf
footprint LT-S5-5-TSOT-23_N (SOT23, 5-Leads, Body 2.90x1.63mm, Pitch 0.95mm, IPC Medium Density)
footprint LT-S5-5-TSOT-23_L (SOT23, 5-Leads, Body 2.90x1.63mm, Pitch 0.95mm, IPC High Density)
footprint LT-S5-5-TSOT-23_M (SOT23, 5-Leads, Body 2.90x1.63mm, Pitch 0.95mm, IPC Low Density)
pins: 1 VOUT (out), 2 VS- (power), 3 +IN (in), 4 -IN (in), 5 VS+ (power)

## LT6220IS8
designator U?
Single Channel, Low Power Precision Operational Amplifier, RRIO, 60 MHz Typical GBW, 20 V/us Typical SR, 2.2 to 12.6 V, 8-Pin SOIC (S8-8), Industrial; Linear Technology Part Number: LT6220; Manufacturer: Linear Technology; PartNumber: LT6220IS8; Channels (#): 1; GBW (MHz) Typical: 60; Is (mA) Typical: 0.9; SR (V/us) Typical: 20; Vos (mV) Guaranteed: 0.35; Vos (mV) Typical: 0.07; Vs Max (V): 12.6; Vs Min (V): 2.2; PackageVersion: Rev G; PackageReference: LT-S8-8; PackageDescription: 8-Pin Plastic Small Outline, Body 4.9 x 3.9 mm, Pitch 1.27 mm; Supplier 1: Digi-Key; Supplier Part Number 1: LT6220IS8-ND; Type: VFB; Mounting Technology: Surface Mount; ComponentLink1Description: Manufacturer URL; ComponentLink1URL: http://www.linear.com/; ComponentLink2Description: Datasheet; ComponentLink2URL: http://cds.linear.com/docs/en/datasheet/622012fa.pdf; ComponentLink3Description: Package Specification; ComponentLink3URL: http://cds.linear.com/docs/en/packaging/05081610_G_SO8.pdf
footprint LT-S8-8_N (SOIC, 8-Leads, Body 4.9x3.9mm, Pitch 1.27mm, IPC Medium Density)
footprint LT-S8-8_L (SOIC, 8-Leads, Body 4.9x3.9mm, Pitch 1.27mm, IPC High Density)
footprint LT-S8-8_M (SOIC, 8-Leads, Body 4.9x3.9mm, Pitch 1.27mm, IPC Low Density)
part A pins: 2 -IN (in), 3 +IN (in), 4 VS- (power), 6 VOUT (out), 7 VS+ (power)
part B pins: 1 NC, 5 NC, 8 NC

## LT6220IS8#PBF
designator U?
Single Channel, Low Power Precision Operational Amplifier, RRIO, 60 MHz Typical GBW, 20 V/us Typical SR, 2.2 to 12.6 V, 8-Pin SOIC (S8-8), Industrial, Pb-Free; Linear Technology Part Number: LT6220; Manufacturer: Linear Technology; PartNumber: LT6220IS8#PBF; Channels (#): 1; GBW (MHz) Typical: 60; Is (mA) Typical: 0.9; SR (V/us) Typical: 20; Vos (mV) Guaranteed: 0.35; Vos (mV) Typical: 0.07; Vs Max (V): 12.6; Vs Min (V): 2.2; PackageVersion: Rev G; PackageReference: LT-S8-8; PackageDescription: 8-Pin Plastic Small Outline, Body 4.9 x 3.9 mm, Pitch 1.27 mm; Supplier 1: Digi-Key; Supplier Part Number 1: LT6220IS8#PBF-ND; RoHS: Pb-Free; Type: VFB; Mounting Technology: Surface Mount; ComponentLink1Description: Manufacturer URL; ComponentLink1URL: http://www.linear.com/; ComponentLink2Description: Datasheet; ComponentLink2URL: http://cds.linear.com/docs/en/datasheet/622012fa.pdf; ComponentLink3Description: Package Specification; ComponentLink3URL: http://cds.linear.com/docs/en/packaging/05081610_G_SO8.pdf
footprint LT-S8-8_N (SOIC, 8-Leads, Body 4.9x3.9mm, Pitch 1.27mm, IPC Medium Density)
footprint LT-S8-8_L (SOIC, 8-Leads, Body 4.9x3.9mm, Pitch 1.27mm, IPC High Density)
footprint LT-S8-8_M (SOIC, 8-Leads, Body 4.9x3.9mm, Pitch 1.27mm, IPC Low Density)
part A pins: 2 -IN (in), 3 +IN (in), 4 VS- (power), 6 VOUT (out), 7 VS+ (power)
part B pins: 1 NC, 5 NC, 8 NC

## LT6220IS8#TR
designator U?
Single Channel, Low Power Precision Operational Amplifier, RRIO, 60 MHz Typical GBW, 20 V/us Typical SR, 2.2 to 12.6 V, 8-Pin SOIC (S8-8), Industrial, Reel; Linear Technology Part Number: LT6220; Manufacturer: Linear Technology; PartNumber: LT6220IS8#TR; Channels (#): 1; GBW (MHz) Typical: 60; Is (mA) Typical: 0.9; SR (V/us) Typical: 20; Vos (mV) Guaranteed: 0.35; Vos (mV) Typical: 0.07; Vs Max (V): 12.6; Vs Min (V): 2.2; PackageVersion: Rev G; PackageReference: LT-S8-8; PackageDescription: 8-Pin Plastic Small Outline, Body 4.9 x 3.9 mm, Pitch 1.27 mm; Supplier 1: Digi-Key; Supplier Part Number 1: LT6220IS8#TR-ND; Packing: Reel; Type: VFB; Mounting Technology: Surface Mount; ComponentLink1Description: Manufacturer URL; ComponentLink1URL: http://www.linear.com/; ComponentLink2Description: Datasheet; ComponentLink2URL: http://cds.linear.com/docs/en/datasheet/622012fa.pdf; ComponentLink3Description: Package Specification; ComponentLink3URL: http://cds.linear.com/docs/en/packaging/05081610_G_SO8.pdf
footprint LT-S8-8_N (SOIC, 8-Leads, Body 4.9x3.9mm, Pitch 1.27mm, IPC Medium Density)
footprint LT-S8-8_L (SOIC, 8-Leads, Body 4.9x3.9mm, Pitch 1.27mm, IPC High Density)
footprint LT-S8-8_M (SOIC, 8-Leads, Body 4.9x3.9mm, Pitch 1.27mm, IPC Low Density)
part A pins: 2 -IN (in), 3 +IN (in), 4 VS- (power), 6 VOUT (out), 7 VS+ (power)
part B pins: 1 NC, 5 NC, 8 NC

## LT6220IS8#TRPBF
designator U?
Single Channel, Low Power Precision Operational Amplifier, RRIO, 60 MHz Typical GBW, 20 V/us Typical SR, 2.2 to 12.6 V, 8-Pin SOIC (S8-8), Industrial, Pb-Free, Reel; Linear Technology Part Number: LT6220; Manufacturer: Linear Technology; PartNumber: LT6220IS8#TRPBF; Channels (#): 1; GBW (MHz) Typical: 60; Is (mA) Typical: 0.9; SR (V/us) Typical: 20; Vos (mV) Guaranteed: 0.35; Vos (mV) Typical: 0.07; Vs Max (V): 12.6; Vs Min (V): 2.2; PackageVersion: Rev G; PackageReference: LT-S8-8; PackageDescription: 8-Pin Plastic Small Outline, Body 4.9 x 3.9 mm, Pitch 1.27 mm; Supplier 1: Digi-Key; Supplier Part Number 1: LT6220IS8#TRPBF-ND; Packing: Reel; RoHS: Pb-Free; Type: VFB; Mounting Technology: Surface Mount; ComponentLink1Description: Manufacturer URL; ComponentLink1URL: http://www.linear.com/; ComponentLink2Description: Datasheet; ComponentLink2URL: http://cds.linear.com/docs/en/datasheet/622012fa.pdf; ComponentLink3Description: Package Specification; ComponentLink3URL: http://cds.linear.com/docs/en/packaging/05081610_G_SO8.pdf
footprint LT-S8-8_N (SOIC, 8-Leads, Body 4.9x3.9mm, Pitch 1.27mm, IPC Medium Density)
footprint LT-S8-8_L (SOIC, 8-Leads, Body 4.9x3.9mm, Pitch 1.27mm, IPC High Density)
footprint LT-S8-8_M (SOIC, 8-Leads, Body 4.9x3.9mm, Pitch 1.27mm, IPC Low Density)
part A pins: 2 -IN (in), 3 +IN (in), 4 VS- (power), 6 VOUT (out), 7 VS+ (power)
part B pins: 1 NC, 5 NC, 8 NC

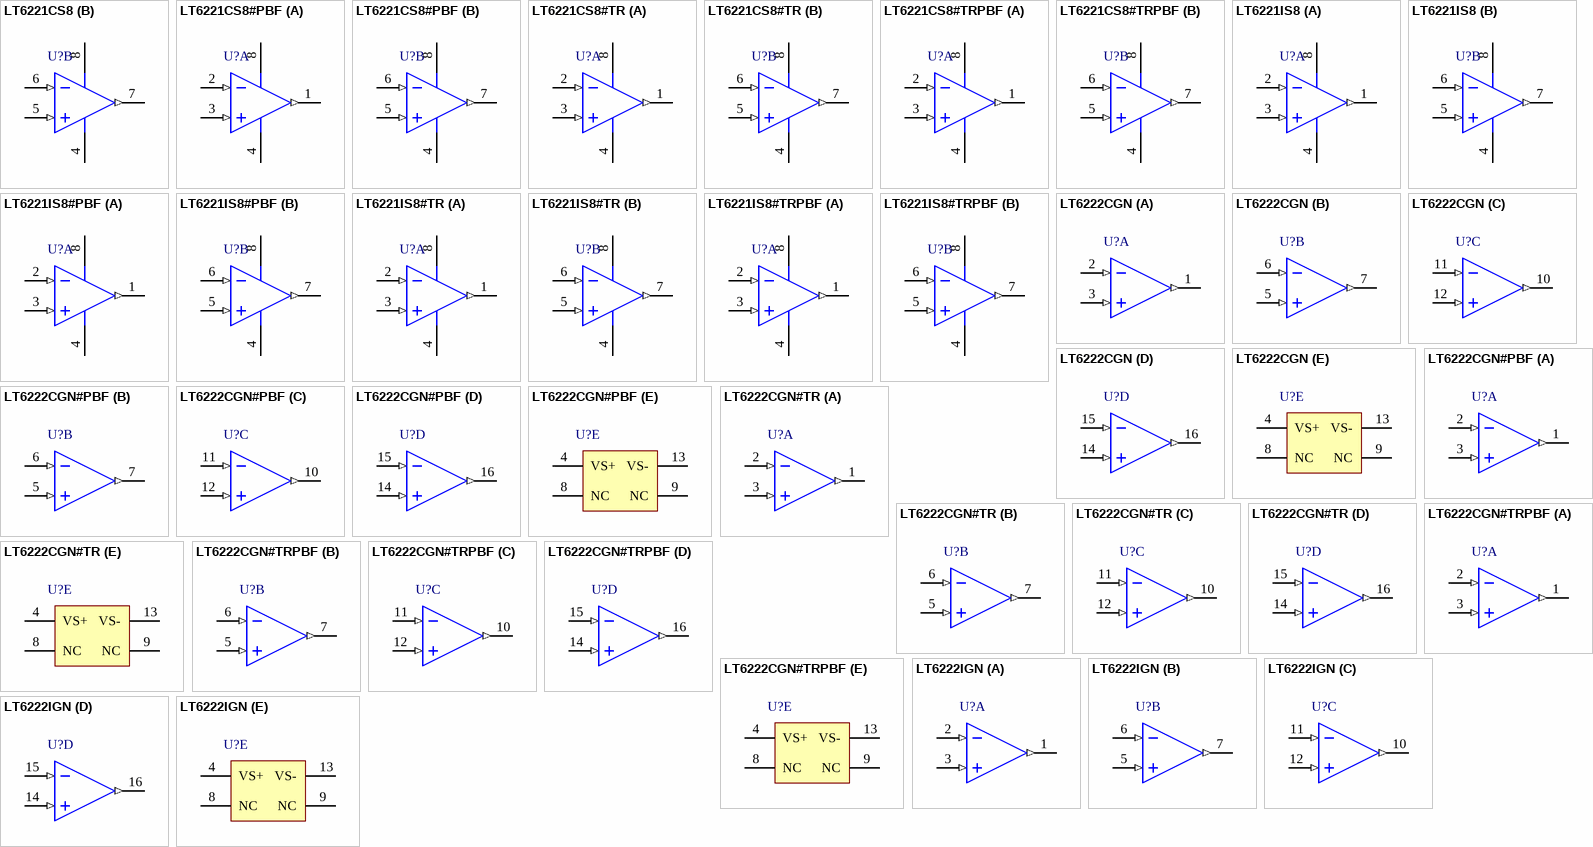
[diagram p25: symbols LT6221CS8 to LT6222IGN]

## LT6221CS8
designator U?
Dual Channel, Low Power Precision Operational Amplifier, RRIO, 60 MHz Typical GBW, 20 V/us Typical SR, 2.2 to 12.6 V, 8-Pin SOIC (S8-8), Commercial; Linear Technology Part Number: LT6221; Manufacturer: Linear Technology; PartNumber: LT6221CS8; Channels (#): 2; GBW (MHz) Typical: 60; Is (mA) Typical: 0.9; SR (V/us) Typical: 20; Vos (mV) Guaranteed: 0.35; Vos (mV) Typical: 0.07; Vs Max (V): 12.6; Vs Min (V): 2.2; PackageVersion: Rev G; PackageReference: LT-S8-8; PackageDescription: 8-Pin Plastic Small Outline, Body 4.9 x 3.9 mm, Pitch 1.27 mm; Supplier 1: Digi-Key; Supplier Part Number 1: LT6221CS8-ND; Type: VFB; Mounting Technology: Surface Mount; ComponentLink1Description: Manufacturer URL; ComponentLink1URL: http://www.linear.com/; ComponentLink2Description: Datasheet; ComponentLink2URL: http://cds.linear.com/docs/en/datasheet/622012fa.pdf; ComponentLink3Description: Package Specification; ComponentLink3URL: http://cds.linear.com/docs/en/packaging/05081610_G_SO8.pdf
footprint LT-S8-8_N (SOIC, 8-Leads, Body 4.9x3.9mm, Pitch 1.27mm, IPC Medium Density)
footprint LT-S8-8_L (SOIC, 8-Leads, Body 4.9x3.9mm, Pitch 1.27mm, IPC High Density)
footprint LT-S8-8_M (SOIC, 8-Leads, Body 4.9x3.9mm, Pitch 1.27mm, IPC Low Density)
pins on every part: 4 VS- (power), 8 VS+ (power)
part A pins: 1 OUT A (out), 2 -IN A (in), 3 +IN A (in)
part B pins: 5 +IN B (in), 6 -IN B (in), 7 OUT B (out)

## LT6221CS8#PBF
designator U?
Dual Channel, Low Power Precision Operational Amplifier, RRIO, 60 MHz Typical GBW, 20 V/us Typical SR, 2.2 to 12.6 V, 8-Pin SOIC (S8-8), Commercial, Pb-Free; Linear Technology Part Number: LT6221; Manufacturer: Linear Technology; PartNumber: LT6221CS8#PBF; Channels (#): 2; GBW (MHz) Typical: 60; Is (mA) Typical: 0.9; SR (V/us) Typical: 20; Vos (mV) Guaranteed: 0.35; Vos (mV) Typical: 0.07; Vs Max (V): 12.6; Vs Min (V): 2.2; PackageVersion: Rev G; PackageReference: LT-S8-8; PackageDescription: 8-Pin Plastic Small Outline, Body 4.9 x 3.9 mm, Pitch 1.27 mm; Supplier 1: Digi-Key; Supplier Part Number 1: LT6221CS8#PBF-ND; Supplier 2: Farnell; Supplier Part Number 2: 1330761; Supplier 3: Newark; Supplier Part Number 3: 75M4771; RoHS: Pb-Free; Type: VFB; Mounting Technology: Surface Mount; ComponentLink1Description: Manufacturer URL; ComponentLink1URL: http://www.linear.com/; ComponentLink2Description: Datasheet; ComponentLink2URL: http://cds.linear.com/docs/en/datasheet/622012fa.pdf; ComponentLink3Description: Package Specification; ComponentLink3URL: http://cds.linear.com/docs/en/packaging/05081610_G_SO8.pdf
footprint LT-S8-8_N (SOIC, 8-Leads, Body 4.9x3.9mm, Pitch 1.27mm, IPC Medium Density)
footprint LT-S8-8_L (SOIC, 8-Leads, Body 4.9x3.9mm, Pitch 1.27mm, IPC High Density)
footprint LT-S8-8_M (SOIC, 8-Leads, Body 4.9x3.9mm, Pitch 1.27mm, IPC Low Density)
pins on every part: 4 VS- (power), 8 VS+ (power)
part A pins: 1 OUT A (out), 2 -IN A (in), 3 +IN A (in)
part B pins: 5 +IN B (in), 6 -IN B (in), 7 OUT B (out)

## LT6221CS8#TR
designator U?
Dual Channel, Low Power Precision Operational Amplifier, RRIO, 60 MHz Typical GBW, 20 V/us Typical SR, 2.2 to 12.6 V, 8-Pin SOIC (S8-8), Commercial, Reel; Linear Technology Part Number: LT6221; Manufacturer: Linear Technology; PartNumber: LT6221CS8#TR; Channels (#): 2; GBW (MHz) Typical: 60; Is (mA) Typical: 0.9; SR (V/us) Typical: 20; Vos (mV) Guaranteed: 0.35; Vos (mV) Typical: 0.07; Vs Max (V): 12.6; Vs Min (V): 2.2; PackageVersion: Rev G; PackageReference: LT-S8-8; PackageDescription: 8-Pin Plastic Small Outline, Body 4.9 x 3.9 mm, Pitch 1.27 mm; Supplier 1: Digi-Key; Supplier Part Number 1: LT6221CS8#TR-ND; Packing: Reel; Type: VFB; Mounting Technology: Surface Mount; ComponentLink1Description: Manufacturer URL; ComponentLink1URL: http://www.linear.com/; ComponentLink2Description: Datasheet; ComponentLink2URL: http://cds.linear.com/docs/en/datasheet/622012fa.pdf; ComponentLink3Description: Package Specification; ComponentLink3URL: http://cds.linear.com/docs/en/packaging/05081610_G_SO8.pdf
footprint LT-S8-8_N (SOIC, 8-Leads, Body 4.9x3.9mm, Pitch 1.27mm, IPC Medium Density)
footprint LT-S8-8_L (SOIC, 8-Leads, Body 4.9x3.9mm, Pitch 1.27mm, IPC High Density)
footprint LT-S8-8_M (SOIC, 8-Leads, Body 4.9x3.9mm, Pitch 1.27mm, IPC Low Density)
pins on every part: 4 VS- (power), 8 VS+ (power)
part A pins: 1 OUT A (out), 2 -IN A (in), 3 +IN A (in)
part B pins: 5 +IN B (in), 6 -IN B (in), 7 OUT B (out)

## LT6221CS8#TRPBF
designator U?
Dual Channel, Low Power Precision Operational Amplifier, RRIO, 60 MHz Typical GBW, 20 V/us Typical SR, 2.2 to 12.6 V, 8-Pin SOIC (S8-8), Commercial, Pb-Free, Reel; Linear Technology Part Number: LT6221; Manufacturer: Linear Technology; PartNumber: LT6221CS8#TRPBF; Channels (#): 2; GBW (MHz) Typical: 60; Is (mA) Typical: 0.9; SR (V/us) Typical: 20; Vos (mV) Guaranteed: 0.35; Vos (mV) Typical: 0.07; Vs Max (V): 12.6; Vs Min (V): 2.2; PackageVersion: Rev G; PackageReference: LT-S8-8; PackageDescription: 8-Pin Plastic Small Outline, Body 4.9 x 3.9 mm, Pitch 1.27 mm; Supplier 1: Digi-Key; Supplier Part Number 1: LT6221CS8#TRPBF-ND; Supplier 2: Newark; Supplier Part Number 2: 15N3669; Packing: Reel; RoHS: Pb-Free; Type: VFB; Mounting Technology: Surface Mount; ComponentLink1Description: Manufacturer URL; ComponentLink1URL: http://www.linear.com/; ComponentLink2Description: Datasheet; ComponentLink2URL: http://cds.linear.com/docs/en/datasheet/622012fa.pdf; ComponentLink3Description: Package Specification; ComponentLink3URL: http://cds.linear.com/docs/en/packaging/05081610_G_SO8.pdf
footprint LT-S8-8_N (SOIC, 8-Leads, Body 4.9x3.9mm, Pitch 1.27mm, IPC Medium Density)
footprint LT-S8-8_L (SOIC, 8-Leads, Body 4.9x3.9mm, Pitch 1.27mm, IPC High Density)
footprint LT-S8-8_M (SOIC, 8-Leads, Body 4.9x3.9mm, Pitch 1.27mm, IPC Low Density)
pins on every part: 4 VS- (power), 8 VS+ (power)
part A pins: 1 OUT A (out), 2 -IN A (in), 3 +IN A (in)
part B pins: 5 +IN B (in), 6 -IN B (in), 7 OUT B (out)